# Altium footprint library PROTECT_TVS_ESD_FUSE.PcbLib: 34 footprints (part 1 of 3)
Each footprint in its own frame and in the unit in brackets; x right, y up, seen from the top. Pads: shape width x height; smd on the part's side, far side on the other; paste and mask are expansions set on the pad; w line width, h text height; cw(c..) or ccw(c..) is an arc to the next point about the centre after c.
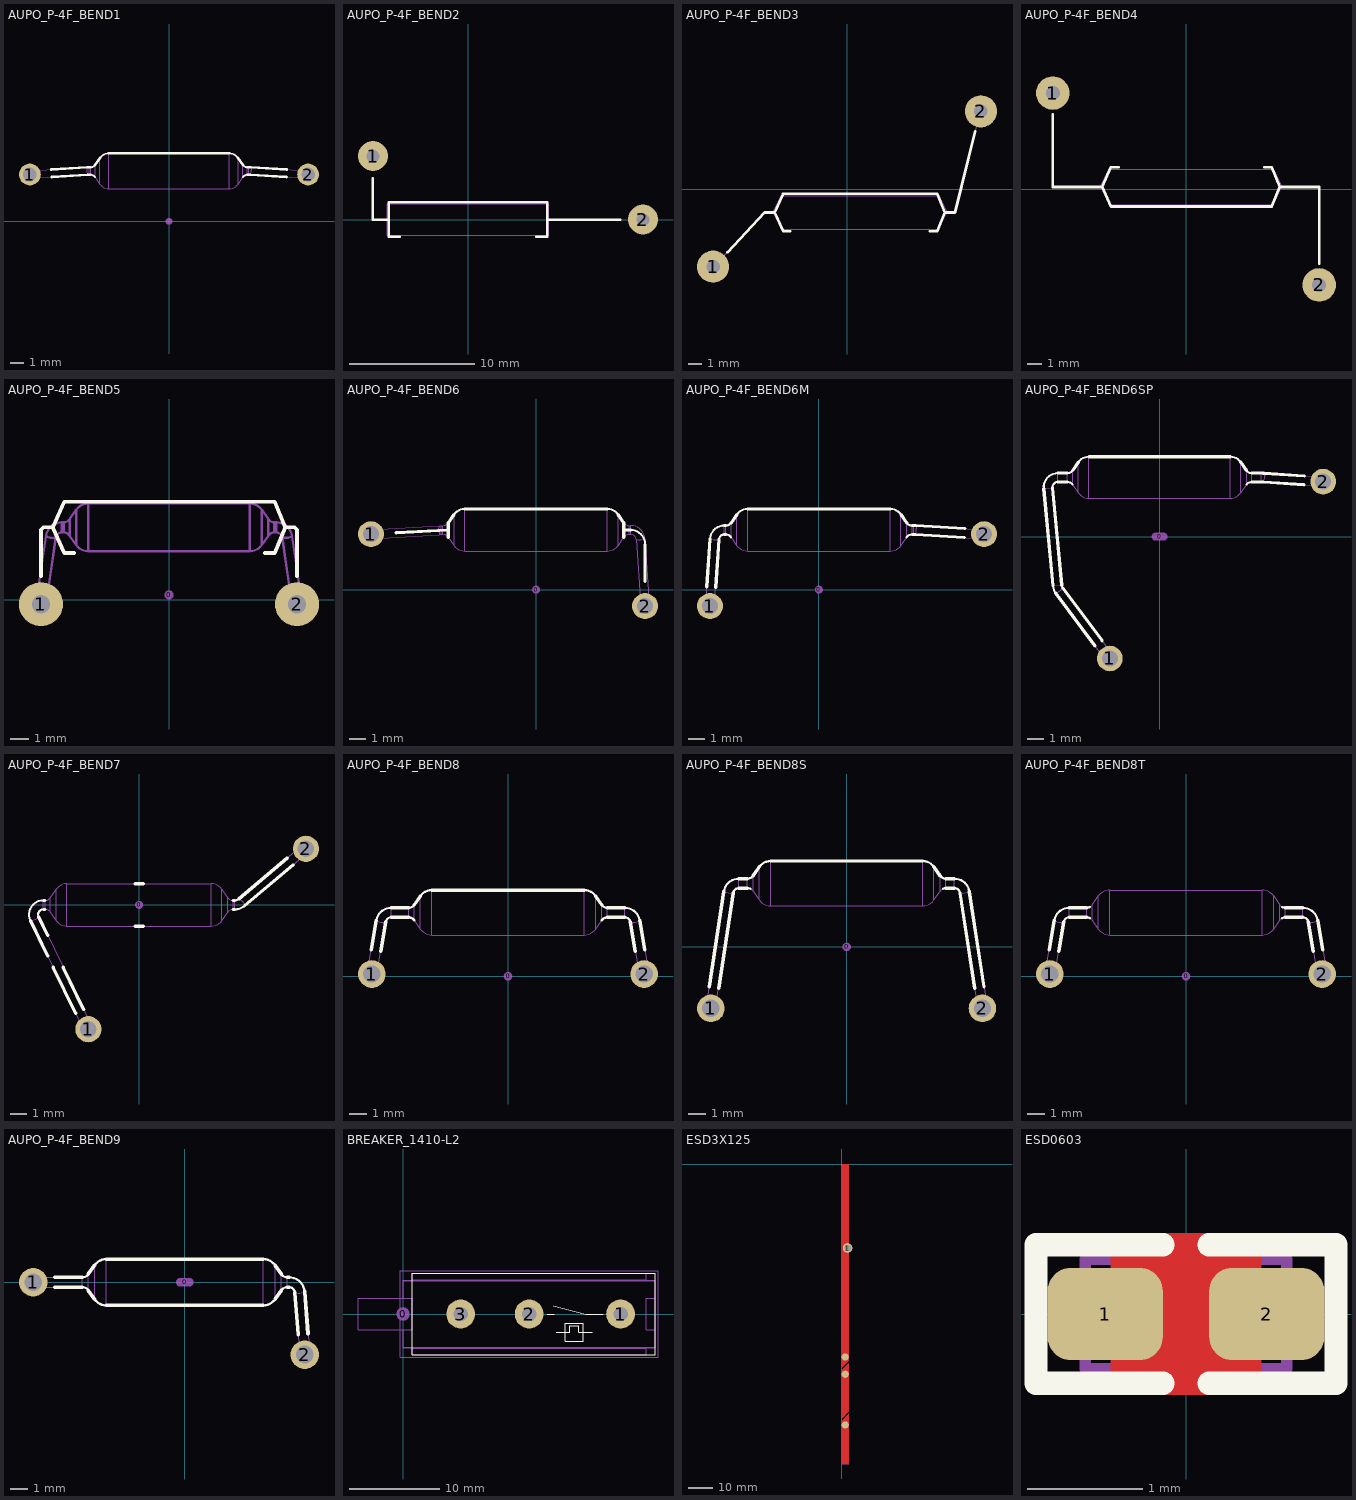
[diagram p0: the footprints below, top view; thin cyan lines are the x and y axes]

## AUPO_P-4F_BEND1 [mm] "Aupo P-4F TCO for positioning on IC legs"
height 2.54
pads (3):
  round 0.5 on Mech15: 0(0,0)
  round 1.6 / inner round 1.6 / far side round 2.4 hole 1: 1(-10.2,3.429) 2(10.2,3.429)
Top Overlay:
  lines w0.127: -5.75,3.408 cw(c-5.75,3.008) -5.422,3.237 ; -5.75,3.958 ccw(c-5.75,4.358) -5.422,4.129 ; -5.063,4.642 cw(c-4.408,4.183) -4.408,4.983 ; 4.408,4.983 cw(c4.408,4.183) 5.063,4.642 ; 5.422,3.237 cw(c5.75,3.008) 5.75,3.408 ; 5.422,4.129 ccw(c5.75,4.358) 5.75,3.958
  lines w0.2: -8.635,3.796 -5.983,3.954 -5.903,3.957 -5.85,3.958 -5.75,3.958 ; -8.602,3.247 -5.95,3.405 -5.91,3.407 -5.85,3.408 -5.75,3.408 ; -5.422,4.129 -5.063,4.642 ; -4.408,4.983 4.408,4.983 ; 5.063,4.642 5.422,4.129 ; 5.75,3.408 5.85,3.408 5.89,3.408 5.95,3.405 8.61,3.246 ; 5.75,3.958 5.85,3.958 5.93,3.957 5.983,3.954 8.643,3.795
Mechanical 13:
  lines w0.05: -9.688,3.733 ccw(c-9.149,3.489) -9.656,3.184 ; 9.656,3.184 ccw(c9.338,3.411) 9.724,3.472 9.725,3.534 9.724,3.593 9.72,3.645 9.714,3.686 9.705,3.715 9.694,3.731 9.688,3.733 ; -5.983,3.954 ccw(c-5.444,3.711) -5.95,3.405 ; -5.983,3.954 -5.903,3.957 -5.85,3.958 ; -5.983,3.954 -10.176,3.704 ccw(c-10.16,3.429) -10.144,3.154 -5.95,3.405 ; -5.95,3.405 -5.91,3.407 -5.85,3.408 ; -5.85,3.408 -5.75,3.408 ; -5.85,3.408 -5.85,3.958 ; -5.85,3.958 -5.75,3.958 ; -5.75,3.408 cw(c-5.75,3.008) -5.422,3.237 ; -5.75,3.408 -5.75,3.958 ; -5.75,3.958 ccw(c-5.75,4.358) -5.422,4.129 ; -5.422,3.237 -5.063,2.724 ; -5.422,3.237 -5.422,4.129 ; -5.422,4.129 -5.063,4.642 ; -5.063,2.724 ccw(c-4.408,3.183) -4.408,2.383 ; -5.063,2.724 -5.063,4.642 ; -5.063,4.642 cw(c-4.408,4.183) -4.408,4.983 ; -4.408,2.383 4.408,2.383 ; -4.408,2.383 -4.408,4.983 ; -4.408,4.983 4.408,4.983 ; 4.408,2.383 ccw(c4.408,3.183) 5.063,2.724 ; 4.408,2.383 4.408,4.983 ; 4.408,4.983 cw(c4.408,4.183) 5.063,4.642 ; 5.063,2.724 5.422,3.237 ; 5.063,2.724 5.063,4.642 ; 5.063,4.642 5.422,4.129 ; 5.422,3.237 cw(c5.75,3.008) 5.75,3.408 ; 5.422,3.237 5.422,4.129 ; 5.422,4.129 ccw(c5.75,4.358) 5.75,3.958 ; 5.75,3.408 5.85,3.408 ; 5.75,3.408 5.75,3.958 ; 5.75,3.958 5.85,3.958 ; 5.85,3.408 5.89,3.408 5.95,3.405 ; 5.85,3.408 5.85,3.958 ; 5.85,3.958 5.93,3.957 5.983,3.954 ; 5.95,3.405 ccw(c5.633,3.632) 6.018,3.693 6.02,3.756 6.019,3.815 6.015,3.866 6.008,3.907 5.999,3.937 5.989,3.952 5.983,3.954 ; 5.95,3.405 10.144,3.154 ccw(c10.16,3.429) 10.176,3.704 5.983,3.954
3D body "TH pad - 20 pin x 90.STEP": height 1.02, standoff 0, extent 9.019,2.287 11.303,4.572
3D body "AUPO P-F Series TCO Bend1.STEP": height 2.65, standoff -2.49, extent -10.433,2.386 10.435,4.981
3D body "TH pad - 20 pin x 90.STEP": height 1.02, standoff 0, extent -11.301,2.287 -9.017,4.571

## AUPO_P-4F_BEND2 [mm] "Aupo P-4F TCO for positioning on IC legs"
height 2.54
pads (2):
  round 2.4 hole 1: 1(-7.6,5.08) 2(14,0)
Top Overlay:
  lines w0.2: -7.62,3.302 -7.62,0 -6.35,0 ; -5.461,-1.397 -6.35,-1.397 -6.35,1.397 6.35,1.397 6.35,-1.397 5.461,-1.397 ; 6.35,0 12.192,0
Mechanical 13:
  lines w0.076: -6.477,-1.27 -6.477,1.265 6.477,1.265 6.477,-1.27 -6.477,-1.27
3D body: height 1.4, standoff -2.41, extent -7.874,4.827 -7.366,5.334
3D body: height 1.65, standoff 1.15, extent -7.873,-0.001 -7.367,5.079
3D body: height 1.65, standoff 1.14, extent -7.607,-0.253 -6.464,0.255
3D body: height 1.65, standoff 1.15, extent 6.35,-0.253 13.97,0.254
3D body: height 2.67, standoff 0.13, extent -6.477,-1.271 6.477,1.266
3D body: height 1.4, standoff -2.41, extent 13.716,-0.253 14.224,0.254
3D body: height 1.65, standoff 1.14, extent 13.714,-0.254 14.221,0.253
3D body: height 1.65, standoff 1.14, extent -7.876,4.826 -7.369,5.333
3D body: height 1.65, standoff 1.14, extent -7.876,-0.255 -7.369,0.253

## AUPO_P-4F_BEND3 [mm] "Aupo P-4F TCO for positioning on IC legs"
height 2.54
pads (2):
  round 2.4 hole 1: 1(-10,-5.8) 2(10,5.8)
Top Overlay:
  lines w0.2: -8.927,-4.723 -6.159,-1.753 -5.397,-1.753 ; -4.229,-3.15 -4.771,-3.15 -5.397,-1.753 ; 6.185,-3.15 6.729,-3.15 7.302,-1.753 ; 9.587,4.318 8.064,-1.753 7.302,-1.753 ; -5.397,-1.753 -4.772,-0.356 6.728,-0.356 7.302,-1.753
Mechanical 13:
  lines w0.076: -9.97,-5.842 -6.15,-1.743 -5.524,-1.743 -4.897,-0.488 6.853,-0.488 7.43,-1.743 8.055,-1.743 9.97,5.842 ; -5.524,-1.755 -4.897,-3.023 6.853,-3.023 7.43,-1.755
3D body "TCOBend3.stp": height 2.67, standoff -2.41, extent -10.207,-6.095 10.24,6.096

## AUPO_P-4F_BEND4 [mm] "Aupo P-4F TCO for positioning on IC legs"
height 2.54
pads (2):
  round 2.4 hole 1: 1(-9.525,6.858) 2(9.525,-6.858)
Top Overlay:
  lines w0.2: -9.525,5.334 -9.525,0.152 -5.994,0.152 ; -5.369,-1.245 6.131,-1.245 6.706,0.152 ; -5.369,1.549 -5.994,0.152 ; -5.368,-1.245 -5.994,0.152 ; -5.368,1.549 -4.826,1.549 ; 5.588,1.549 6.132,1.549 6.706,0.152 ; 9.525,-5.334 9.525,0.152 6.706,0.152
Mechanical 13:
  lines w0.076: -9.525,5.334 -9.525,0.152 -6.121,0.152 ; -6.121,0.15 -5.494,-1.118 6.256,-1.118 6.833,0.15 ; -6.121,0.162 -5.494,1.417 6.256,1.417 6.833,0.162 ; 6.833,0.152 9.525,0.152 9.525,-5.334
3D body "TCOBend4.stp": height 2.67, standoff -2.41, extent -9.778,-7.127 9.778,7.096

## AUPO_P-4F_BEND5 [mm] "Aupo P-4F TCO for positioning on IC legs"
height 2.54
pads (3):
  round 0.5 on Mech15: 0(0,0.254)
  round 2.4 hole 1: 1(-6.985,-0.254) 2(6.985,-0.254)
Top Overlay:
  lines w0.2: -6.985,1.27 -6.985,3.81 -6.858,3.937 -6.35,3.937 ; -5.182,2.54 -5.723,2.54 -6.35,3.937 ; 5.232,2.54 5.776,2.54 6.35,3.937 ; 6.985,1.27 6.985,3.81 6.858,3.937 6.35,3.937 ; -6.35,3.937 -5.725,5.334 5.775,5.334 6.35,3.937
Mechanical 13:
  lines w0.127: -7.186,0.269 ccw(c-6.837,0.751) -6.642,0.189 ; 6.642,0.189 ccw(c6.832,0.837) 7.184,0.261 7.186,0.269 ; -6.716,3.472 ccw(c-6.367,3.955) -6.172,3.392 ; -6.716,3.472 cw(c-5.854,3.34) -5.85,4.212 ; -6.716,3.472 -7.257,-0.214 ccw(c-6.985,-0.254) -6.713,-0.294 -6.172,3.392 ; -6.172,3.392 cw(c-5.854,3.34) -5.85,3.662 ; -5.85,3.662 -5.85,4.212 ; -5.85,3.662 -5.75,3.662 ; -5.85,4.212 -5.75,4.212 ; -5.75,3.662 cw(c-5.75,3.262) -5.422,3.491 ; -5.75,3.662 -5.75,4.212 ; -5.75,4.212 ccw(c-5.75,4.612) -5.422,4.383 ; -5.422,3.491 -5.422,4.383 ; -5.422,3.491 -5.063,2.978 ; -5.422,4.383 -5.063,4.896 ; -5.063,2.978 ccw(c-4.408,3.437) -4.408,2.637 ; -5.063,2.978 -5.063,4.896 ; -5.063,4.896 cw(c-4.408,4.437) -4.408,5.237 ; -4.408,2.637 -4.408,5.237 ; -4.408,2.637 4.408,2.637 ; -4.408,5.237 4.408,5.237 ; 4.408,2.637 ccw(c4.408,3.437) 5.063,2.978 ; 4.408,2.637 4.408,5.237 ; 4.408,5.237 cw(c4.408,4.437) 5.063,4.896 ; 5.063,2.978 5.063,4.896 ; 5.063,2.978 5.422,3.491 ; 5.063,4.896 5.422,4.383 ; 5.422,3.491 cw(c5.75,3.262) 5.75,3.662 ; 5.422,3.491 5.422,4.383 ; 5.422,4.383 ccw(c5.75,4.612) 5.75,4.212 ; 5.75,3.662 5.75,4.212 ; 5.75,3.662 5.85,3.662 ; 5.75,4.212 5.85,4.212 ; 5.85,3.662 cw(c5.854,3.34) 6.172,3.392 ; 5.85,3.662 5.85,4.212 ; 5.85,4.212 cw(c5.854,3.34) 6.716,3.472 ; 6.172,3.392 ccw(c6.361,4.041) 6.714,3.464 6.716,3.472 ; 6.172,3.392 6.713,-0.294 ccw(c6.985,-0.254) 7.26,-0.254 7.257,-0.214 6.716,3.472
3D body "AUPO P-F Series TCO Bend5.STEP": height 2.6, standoff -2.54, extent -7.258,-0.528 7.26,5.235

## AUPO_P-4F_BEND6 [mm] "Aupo P-4F TCO for positioning on IC legs"
height 2.54
pads (3):
  round 0.5 on Mech15: 0(0,0)
  round 1.6 / inner round 1.6 / far side round 2.4 hole 1: 1(-10.2,3.429) 2(6.731,-1.016)
Top Overlay:
  lines w0.127: -5.063,4.642 cw(c-4.408,4.183) -4.408,4.983 ; 4.408,4.983 cw(c4.408,4.183) 5.063,4.642 ; 5.842,3.683 cw(c5.842,2.794) 6.731,2.794
  lines w0.2: -8.64,3.51 -5.422,3.683 ; -5.422,3.237 -5.422,4.129 -5.063,4.642 ; -4.408,4.983 4.408,4.983 ; 5.063,4.642 5.422,4.129 5.422,3.237 ; 5.422,3.683 5.842,3.683 ; 6.731,0.508 6.731,2.794
Mechanical 13:
  lines w0.05: -9.688,3.733 ccw(c-9.143,3.49) -9.656,3.184 ; 6.423,-0.535 ccw(c6.658,0.109) 6.971,-0.501 6.971,-0.498 ; -5.983,3.954 ccw(c-5.438,3.711) -5.95,3.405 ; -5.983,3.954 -5.9,3.957 -5.85,3.958 ; -5.983,3.954 -10.176,3.704 ccw(c-10.16,3.429) -10.144,3.154 -5.95,3.405 ; -5.95,3.405 -5.913,3.407 -5.85,3.408 ; -5.85,3.408 -5.75,3.408 ; -5.85,3.408 -5.85,3.958 ; -5.85,3.958 -5.75,3.958 ; -5.75,3.408 cw(c-5.75,3.008) -5.422,3.237 ; -5.75,3.408 -5.75,3.958 ; -5.75,3.958 ccw(c-5.75,4.358) -5.422,4.129 ; -5.422,3.237 -5.422,4.129 ; -5.422,3.237 -5.063,2.724 ; -5.422,4.129 -5.063,4.642 ; -5.063,2.724 ccw(c-4.408,3.183) -4.408,2.383 ; -5.063,2.724 -5.063,4.642 ; -5.063,4.642 cw(c-4.408,4.183) -4.408,4.983 ; -4.408,2.383 4.408,2.383 ; -4.408,2.383 -4.408,4.983 ; -4.408,4.983 4.408,4.983 ; 4.408,2.383 ccw(c4.408,3.183) 5.063,2.724 ; 4.408,2.383 4.408,4.983 ; 4.408,4.983 cw(c4.408,4.183) 5.063,4.642 ; 5.063,2.724 5.422,3.237 ; 5.063,2.724 5.063,4.642 ; 5.063,4.642 5.422,4.129 ; 5.422,3.237 cw(c5.75,3.008) 5.75,3.408 ; 5.422,3.237 5.422,4.129 ; 5.422,4.129 ccw(c5.75,4.358) 5.75,3.958 ; 5.75,3.408 5.85,3.408 ; 5.75,3.408 5.75,3.958 ; 5.75,3.958 5.85,3.958 ; 5.85,3.408 cw(c5.854,3.087) 6.174,3.112 ; 5.85,3.408 5.85,3.958 ; 5.85,3.958 cw(c5.854,3.086) 6.723,3.15 ; 6.174,3.112 ccw(c6.409,3.758) 6.723,3.147 6.723,3.15 ; 6.174,3.112 6.457,-1.035 ccw(c6.731,-1.016) 7.006,-1.016 7.005,-0.997 6.723,3.15
3D body "TH pad - 20 pin x 90.STEP": height 1.02, standoff 0, extent 5.588,-2.158 7.872,0.126
3D body "AUPO P-F Series TCO Bend6.STEP": height 2.61, standoff -2.53, extent -10.433,-1.29 7.006,4.981
3D body "TH pad - 20 pin x 90.STEP": height 1.02, standoff 0, extent -11.303,2.287 -9.019,4.572

## AUPO_P-4F_BEND6M [mm] "Aupo P-4F TCO for positioning on IC legs"
height 2.54
pads (3):
  round 0.5 on Mech15: 0(0,0)
  round 1.6 / inner round 1.6 / far side round 2.4 hole 1: 1(-6.731,-1.016) 2(10.2,3.429)
Top Overlay:
  lines w0.127: -6.723,3.15 cw(c-5.854,3.087) -5.85,3.958 ; -6.174,3.113 cw(c-5.854,3.086) -5.85,3.408 ; -5.75,3.408 cw(c-5.75,3.008) -5.422,3.237 ; -5.75,3.958 ccw(c-5.75,4.358) -5.422,4.129 ; -5.063,4.642 cw(c-4.408,4.183) -4.408,4.983 ; 4.408,4.983 cw(c4.408,4.183) 5.063,4.642 ; 5.422,3.237 cw(c5.75,3.008) 5.75,3.408 ; 5.422,4.129 ccw(c5.75,4.358) 5.75,3.958
  lines w0.2: -6.925,0.166 -6.723,3.15 ; -6.377,0.129 -6.174,3.113 ; -5.85,3.408 -5.75,3.408 ; -5.85,3.958 -5.75,3.958 ; -5.422,4.129 -5.063,4.642 ; -4.408,4.983 4.408,4.983 ; 5.063,4.642 5.422,4.129 ; 5.75,3.408 5.85,3.408 5.888,3.408 5.952,3.405 8.982,3.224 ; 5.75,3.958 5.85,3.958 5.935,3.956 5.985,3.954 9.015,3.773
Mechanical 13:
  lines w0.05: -6.971,-0.5 ccw(c-6.656,0.069) -6.422,-0.537 ; 9.658,3.184 ccw(c9.332,3.414) 9.727,3.471 9.729,3.532 9.728,3.589 9.724,3.639 9.718,3.681 9.709,3.711 9.699,3.728 9.691,3.733 ; -6.723,3.15 ccw(c-6.409,3.72) -6.174,3.112 ; -6.723,3.15 cw(c-5.854,3.087) -5.85,3.958 ; -6.723,3.15 -7.004,-0.997 ccw(c-6.73,-1.016) -6.456,-1.035 -6.174,3.113 ; -6.174,3.113 cw(c-5.854,3.086) -5.85,3.408 ; -5.85,3.408 -5.85,3.958 ; -5.85,3.408 -5.75,3.408 ; -5.85,3.958 -5.75,3.958 ; -5.75,3.408 cw(c-5.75,3.008) -5.422,3.237 ; -5.75,3.408 -5.75,3.958 ; -5.75,3.958 ccw(c-5.75,4.358) -5.422,4.129 ; -5.422,3.237 -5.422,4.129 ; -5.422,3.237 -5.063,2.724 ; -5.422,4.129 -5.063,4.642 ; -5.063,2.724 ccw(c-4.408,3.183) -4.408,2.383 ; -5.063,2.724 -5.063,4.642 ; -5.063,4.642 cw(c-4.408,4.183) -4.408,4.983 ; -4.408,2.383 -4.408,4.983 ; -4.408,2.383 4.408,2.383 ; -4.408,4.983 4.408,4.983 ; 4.408,2.383 ccw(c4.408,3.183) 5.063,2.724 ; 4.408,2.383 4.408,4.983 ; 4.408,4.983 cw(c4.408,4.183) 5.063,4.642 ; 5.063,2.724 5.063,4.642 ; 5.063,2.724 5.422,3.237 ; 5.063,4.642 5.422,4.129 ; 5.422,3.237 cw(c5.75,3.008) 5.75,3.408 ; 5.422,3.237 5.422,4.129 ; 5.422,4.129 ccw(c5.75,4.358) 5.75,3.958 ; 5.75,3.408 5.75,3.958 ; 5.75,3.408 5.85,3.408 ; 5.75,3.958 5.85,3.958 ; 5.85,3.408 5.85,3.958 ; 5.85,3.408 5.888,3.408 5.952,3.405 ; 5.85,3.958 5.935,3.956 5.985,3.954 ; 5.952,3.405 ccw(c5.626,3.636) 6.021,3.693 6.023,3.753 6.022,3.81 6.018,3.861 6.012,3.902 6.004,3.932 5.993,3.95 5.985,3.954 ; 5.952,3.405 10.144,3.154 ccw(c10.16,3.429) 10.176,3.704 5.985,3.954
3D body "TH pad - 20 pin x 90.STEP": height 1.02, standoff 0, extent -7.872,-2.158 -5.588,0.126
3D body "AUPO P-F Series TCO Bend6M.STEP": height 2.62, standoff -2.54, extent -7.003,-1.29 10.435,4.981
3D body "TH pad - 20 pin x 90.STEP": height 1.02, standoff 0, extent 9.019,2.287 11.303,4.572

## AUPO_P-4F_BEND6SP [mm] "Aupo P-4F TCO for positioning on IC legs"
height 2.54
pads (3):
  oval 1x0.5 on Mech15: 0(0,0)
  round 1.6 / inner round 1.6 / far side round 2.4 hole 1: 1(-3.1,-7.6) 2(10.2,3.429)
Top Overlay:
  lines w0.127: -7.221,3.001 cw(c-6.35,3.083) -6.35,3.958 ; -6.674,3.053 cw(c-6.35,3.083) -6.35,3.408 ; -6.649,-3.08 ccw(c-5.761,-2.997) -6.477,-3.529 ; -6.101,-3.028 ccw(c-5.761,-2.997) -6.036,-3.201 ; -5.75,3.408 cw(c-5.75,3.008) -5.422,3.237 ; -5.75,3.958 ccw(c-5.75,4.358) -5.422,4.129 ; -5.063,4.642 cw(c-4.408,4.183) -4.408,4.983 ; 4.408,4.983 cw(c4.408,4.183) 5.063,4.642 ; 5.422,3.237 cw(c5.75,3.008) 5.75,3.408 ; 5.422,4.129 ccw(c5.75,4.358) 5.75,3.958
  lines w0.2: -7.221,3.001 -6.649,-3.08 ; -6.674,3.053 -6.101,-3.028 ; -6.477,-3.529 -4.026,-6.818 ; -6.35,3.408 -5.75,3.408 ; -6.35,3.958 -5.75,3.958 ; -6.036,-3.201 -3.585,-6.489 ; -5.422,4.129 -5.063,4.642 ; -4.408,4.983 4.408,4.983 ; 5.063,4.642 5.422,4.129 ; 5.75,3.408 6.35,3.408 6.391,3.408 6.468,3.404 9.002,3.232 ; 5.75,3.958 6.35,3.958 6.451,3.956 6.505,3.953 9.039,3.781
Mechanical 13:
  lines w0.05: -3.627,-7.353 ccw(c-3.924,-6.468) -3.216,-7.076 -3.194,-7.049 -3.185,-7.031 -3.186,-7.024 ; 9.673,3.186 ccw(c9.322,3.438) 9.752,3.475 9.754,3.541 9.752,3.601 9.746,3.653 9.738,3.695 9.726,3.722 9.713,3.735 9.71,3.735 ; -7.221,3.001 cw(c-6.35,3.083) -6.35,3.958 ; -7.221,3.001 -6.674,3.053 ; -7.221,3.001 -6.649,-3.08 ; -6.674,3.053 cw(c-6.35,3.083) -6.35,3.408 ; -6.674,3.053 -6.101,-3.028 ; -6.649,-3.08 ccw(c-5.761,-2.997) -6.477,-3.529 ; -6.649,-3.08 -6.101,-3.028 ; -6.477,-3.529 ccw(c-6.773,-2.644) -6.065,-3.252 -6.044,-3.226 -6.035,-3.208 -6.036,-3.201 ; -6.477,-3.529 -3.321,-7.764 ccw(c-3.1,-7.6) -2.879,-7.436 -6.036,-3.201 ; -6.35,3.408 -6.35,3.958 ; -6.35,3.408 -5.75,3.408 ; -6.35,3.958 -5.75,3.958 ; -6.101,-3.028 ccw(c-5.761,-2.997) -6.036,-3.201 ; -5.75,3.408 cw(c-5.75,3.008) -5.422,3.237 ; -5.75,3.408 -5.75,3.958 ; -5.75,3.958 ccw(c-5.75,4.358) -5.422,4.129 ; -5.422,3.237 -5.422,4.129 ; -5.422,3.237 -5.063,2.724 ; -5.422,4.129 -5.063,4.642 ; -5.063,2.724 ccw(c-4.408,3.183) -4.408,2.383 ; -5.063,2.724 -5.063,4.642 ; -5.063,4.642 cw(c-4.408,4.183) -4.408,4.983 ; -4.408,2.383 -4.408,4.983 ; -4.408,2.383 4.408,2.383 ; -4.408,4.983 4.408,4.983 ; 4.408,2.383 ccw(c4.408,3.183) 5.063,2.724 ; 4.408,2.383 4.408,4.983 ; 4.408,4.983 cw(c4.408,4.183) 5.063,4.642 ; 5.063,2.724 5.063,4.642 ; 5.063,2.724 5.422,3.237 ; 5.063,4.642 5.422,4.129 ; 5.422,3.237 cw(c5.75,3.008) 5.75,3.408 ; 5.422,3.237 5.422,4.129 ; 5.422,4.129 ccw(c5.75,4.358) 5.75,3.958 ; 5.75,3.408 5.75,3.958 ; 5.75,3.408 6.35,3.408 ; 5.75,3.958 6.35,3.958 ; 6.35,3.408 6.35,3.958 ; 6.35,3.408 6.391,3.408 6.468,3.404 ; 6.35,3.958 6.451,3.956 6.505,3.953 ; 6.468,3.404 ccw(c6.117,3.656) 6.547,3.693 6.549,3.758 6.547,3.819 6.541,3.871 6.533,3.912 6.521,3.94 6.508,3.952 6.505,3.953 ; 6.468,3.404 10.141,3.155 ccw(c10.16,3.429) 10.179,3.703 6.505,3.953
3D body "TH pad - 20 pin x 90.STEP": height 1.02, standoff 0, extent 9.019,2.287 11.303,4.572
3D body "AUPO P-4F BEND6SP.STEP": height 2.62, standoff -2.54, extent -7.221,-7.874 10.435,4.983
3D body "TH pad - 20 pin x 90.STEP": height 1.02, standoff 0, extent -4.241,-8.742 -1.957,-6.458

## AUPO_P-4F_BEND7 [mm] "Aupo P-4F TCO for positioning on IC legs"
height 2.54
pads (3):
  round 0.5 on Mech15: 0(0,0)
  round 1.6 / inner round 1.6 / far side round 2.4 hole 1: 1(-3.1,-7.6) 2(10.2,3.429)
Top Overlay:
  lines w0.127: -6.639,-0.957 cw(c-5.861,-0.586) -5.85,0.275 ; -6.145,-0.716 cw(c-5.86,-0.587) -5.85,-0.275 ; 5.85,-0.275 ccw(c5.857,0.637) 6.44,-0.064 ; 5.85,0.275 ccw(c5.855,0.642) 6.086,0.357
  lines w0.2: -6.639,-0.957 -5.588,-3.117 ; -6.145,-0.716 -5.588,-1.86 ; -5.85,-0.275 -5.75,-0.275 ; -5.85,0.275 -5.75,0.275 ; -5.251,-3.81 -3.878,-6.63 ; -4.639,-3.81 -3.383,-6.39 ; -0.254,-1.3 0.254,-1.3 ; -0.254,1.3 0.254,1.3 ; 5.75,-0.275 5.85,-0.275 ; 5.75,0.275 5.85,0.275 ; 6.086,0.357 9.064,2.865 ; 6.44,-0.064 9.418,2.445
Mechanical 13:
  lines w0.05: -3.558,-7.288 ccw(c-3.571,-6.598) -3.078,-7.081 -3.064,-7.061 -3.063,-7.047 ; 9.669,3.375 9.683,3.381 9.71,3.379 9.743,3.366 9.783,3.342 9.826,3.308 9.87,3.267 9.912,3.22 9.951,3.17 9.985,3.119 10.011,3.071 10.027,3.029 10.035,2.993 10.032,2.967 10.023,2.954 ; -6.639,-0.957 ccw(c-6.652,-0.267) -6.159,-0.75 -6.145,-0.73 -6.145,-0.716 ; -6.639,-0.957 cw(c-5.861,-0.586) -5.85,0.275 ; -6.639,-0.957 -3.347,-7.72 ccw(c-3.1,-7.6) -2.825,-7.6 -2.832,-7.537 -2.853,-7.48 -6.145,-0.716 ; -6.145,-0.716 cw(c-5.86,-0.587) -5.85,-0.275 ; -5.85,-0.275 -5.85,0.275 ; -5.85,-0.275 -5.75,-0.275 ; -5.85,0.275 -5.75,0.275 ; -5.75,-0.275 cw(c-5.75,-0.675) -5.422,-0.446 ; -5.75,-0.275 -5.75,0.275 ; -5.75,0.275 ccw(c-5.75,0.675) -5.422,0.446 ; -5.422,-0.446 -5.422,0.446 ; -5.422,-0.446 -5.063,-0.959 ; -5.422,0.446 -5.063,0.959 ; -5.063,-0.959 ccw(c-4.408,-0.5) -4.408,-1.3 ; -5.063,-0.959 -5.063,0.959 ; -5.063,0.959 cw(c-4.408,0.5) -4.408,1.3 ; -4.408,-1.3 -4.408,1.3 ; -4.408,-1.3 4.408,-1.3 ; -4.408,1.3 4.408,1.3 ; 4.408,-1.3 ccw(c4.408,-0.5) 5.063,-0.959 ; 4.408,-1.3 4.408,1.3 ; 4.408,1.3 cw(c4.408,0.5) 5.063,0.959 ; 5.063,-0.959 5.063,0.959 ; 5.063,-0.959 5.422,-0.446 ; 5.063,0.959 5.422,0.446 ; 5.422,-0.446 cw(c5.75,-0.675) 5.75,-0.275 ; 5.422,-0.446 5.422,0.446 ; 5.422,0.446 ccw(c5.75,0.675) 5.75,0.275 ; 5.75,-0.275 5.75,0.275 ; 5.75,-0.275 5.85,-0.275 ; 5.75,0.275 5.85,0.275 ; 5.85,-0.275 ccw(c5.857,0.637) 6.44,-0.064 ; 5.85,-0.275 5.85,0.275 ; 5.85,0.275 ccw(c5.855,0.642) 6.086,0.357 ; 6.086,0.357 9.983,3.639 cw(c10.16,3.429) 10.337,3.219 6.44,-0.064 ; 6.086,0.357 6.1,0.363 6.127,0.361 6.16,0.348 6.2,0.324 6.243,0.29 6.287,0.249 6.329,0.202 6.368,0.152 6.402,0.101 6.428,0.053 6.444,0.011 6.452,-0.025 6.449,-0.051 6.44,-0.064
3D body "TH pad - 20 pin x 90.STEP": height 1.02, standoff 0, extent 9.019,2.287 11.303,4.572
3D body "AUPO P-F Series TCO BEND7.STEP": height 3.5, standoff -2.54, extent -6.724,-7.874 10.435,3.704
3D body "TH pad - 20 pin x 90.STEP": height 1.02, standoff 0, extent -4.241,-8.742 -1.957,-6.458

## AUPO_P-4F_BEND8 [mm] "Aupo P-4F TCO for positioning on IC legs"
height 2.54
pads (3):
  round 0.5 on Mech15: 0(0,0)
  round 1.6 / inner round 1.6 / far side round 2.4 hole 1: 1(-7.874,0.127) 2(7.874,0.127)
Top Overlay:
  lines w0.127: -7.613,3.243 cw(c-6.756,3.088) -6.75,3.958 ; -7.071,3.149 cw(c-6.756,3.087) -6.75,3.408 ; -5.75,3.408 cw(c-5.75,3.008) -5.422,3.237 ; -5.75,3.958 ccw(c-5.75,4.358) -5.422,4.129 ; -5.063,4.642 cw(c-4.408,4.183) -4.408,4.983 ; 4.408,4.983 cw(c4.408,4.183) 5.063,4.642 ; 5.422,3.237 cw(c5.75,3.008) 5.75,3.408 ; 5.422,4.129 ccw(c5.75,4.358) 5.75,3.958 ; 6.75,3.408 cw(c6.756,3.088) 7.071,3.149 ; 6.75,3.958 cw(c6.756,3.088) 7.613,3.243
  lines w0.2: -7.91,1.53 -7.613,3.243 ; -7.368,1.436 -7.071,3.149 ; -6.75,3.408 -5.75,3.408 ; -6.75,3.958 -5.75,3.958 ; -5.422,4.129 -5.063,4.642 ; -4.408,4.983 4.408,4.983 ; 5.063,4.642 5.422,4.129 ; 5.75,3.408 6.75,3.408 ; 5.75,3.958 6.75,3.958 ; 7.071,3.149 7.368,1.436 ; 7.613,3.243 7.91,1.53
Mechanical 13:
  lines w0.05: -8.066,0.631 -8.066,0.627 -8.058,0.613 -8.038,0.597 -8.007,0.58 -7.965,0.563 -7.916,0.548 -7.861,0.534 -7.803,0.523 -7.744,0.514 -7.688,0.509 -7.637,0.507 -7.593,0.509 -7.559,0.514 -7.536,0.523 -7.524,0.535 -7.524,0.537 ; -7.61,3.232 ccw(c-7.267,3.671) -7.071,3.149 ; 7.524,0.537 ccw(c7.72,1.058) 8.063,0.62 8.066,0.631 ; 7.61,3.232 cw(c7.267,3.671) 7.071,3.149 ; -7.071,3.149 cw(c-6.756,3.087) -6.75,3.408 ; -7.071,3.149 -7.603,0.08 cw(c-7.874,0.127) -8.145,0.174 -7.613,3.243 cw(c-6.756,3.088) -6.75,3.958 ; -6.75,3.408 -6.75,3.958 ; -6.75,3.408 -5.75,3.408 ; -6.75,3.958 -5.75,3.958 ; -5.75,3.408 cw(c-5.75,3.008) -5.422,3.237 ; -5.75,3.408 -5.75,3.958 ; -5.75,3.958 ccw(c-5.75,4.358) -5.422,4.129 ; -5.422,3.237 -5.422,4.129 ; -5.422,3.237 -5.063,2.724 ; -5.422,4.129 -5.063,4.642 ; -5.063,2.724 ccw(c-4.408,3.183) -4.408,2.383 ; -5.063,2.724 -5.063,4.642 ; -5.063,4.642 cw(c-4.408,4.183) -4.408,4.983 ; -4.408,2.383 -4.408,4.983 ; -4.408,2.383 4.408,2.383 ; -4.408,4.983 4.408,4.983 ; 4.408,2.383 ccw(c4.408,3.183) 5.063,2.724 ; 4.408,2.383 4.408,4.983 ; 4.408,4.983 cw(c4.408,4.183) 5.063,4.642 ; 5.063,2.724 5.063,4.642 ; 5.063,2.724 5.422,3.237 ; 5.063,4.642 5.422,4.129 ; 5.422,3.237 cw(c5.75,3.008) 5.75,3.408 ; 5.422,3.237 5.422,4.129 ; 5.422,4.129 ccw(c5.75,4.358) 5.75,3.958 ; 5.75,3.408 5.75,3.958 ; 5.75,3.408 6.75,3.408 ; 5.75,3.958 6.75,3.958 ; 6.75,3.408 cw(c6.756,3.088) 7.071,3.149 ; 6.75,3.408 6.75,3.958 ; 6.75,3.958 cw(c6.756,3.088) 7.613,3.243 8.145,0.174 8.149,0.127 cw(c7.874,0.127) 7.603,0.08 7.071,3.149
3D body "TH pad - 20 pin x 90.STEP": height 1.02, standoff 0, extent 6.733,-1.015 9.017,1.27
3D body "AUPO P-4F BEND8.STEP": height 2.67, standoff -2.49, extent -8.147,-0.147 8.149,4.983
3D body "TH pad - 20 pin x 90.STEP": height 1.02, standoff 0, extent -9.015,-1.015 -6.731,1.269

## AUPO_P-4F_BEND8S [mm] "Aupo P-4F TCO for positioning beside FETs"
height 3.4
pads (3):
  round 0.5 on Mech15: 0(0,0)
  round 1.6 / inner round 1.6 / far side round 2.4 hole 1: 1(-7.874,-3.556) 2(7.874,-3.556)
Top Overlay:
  lines w0.127: -7.115,3.218 cw(c-6.251,3.084) -6.25,3.958 ; -6.571,3.135 cw(c-6.251,3.084) -6.25,3.408 ; -5.75,3.408 cw(c-5.75,3.008) -5.581,3.371 ; -5.75,3.958 ccw(c-5.75,4.358) -5.422,4.129 ; -5.063,4.642 cw(c-4.408,4.183) -4.408,4.983 ; 4.408,4.983 cw(c4.408,4.183) 5.063,4.642 ; 5.422,4.129 ccw(c5.75,4.358) 5.75,3.958 ; 5.581,3.371 cw(c5.75,3.008) 5.75,3.408 ; 6.25,3.408 cw(c6.251,3.084) 6.571,3.135 ; 6.25,3.958 cw(c6.251,3.084) 7.115,3.218
  lines w0.2: -7.963,-2.322 -7.115,3.218 ; -7.42,-2.405 -6.571,3.135 ; -6.25,3.408 -5.75,3.408 ; -6.25,3.958 -5.75,3.958 ; -5.422,4.129 -5.063,4.642 ; -4.408,4.983 4.408,4.983 ; 5.063,4.642 5.422,4.129 ; 5.75,3.408 6.25,3.408 ; 5.75,3.958 6.25,3.958 ; 6.571,3.135 7.42,-2.405 ; 7.115,3.218 7.963,-2.322
Mechanical 13:
  lines w0.05: -8.065,-2.984 ccw(c-7.648,-2.08) -7.521,-3.067 ; 7.521,-3.067 ccw(c7.642,-1.999) 8.062,-2.989 8.065,-2.984 ; -7.115,3.218 cw(c-6.251,3.084) -6.25,3.958 ; -7.115,3.218 ccw(c-6.698,4.123) -6.571,3.135 ; -7.115,3.218 -8.146,-3.514 ccw(c-7.874,-3.556) -7.602,-3.598 -6.571,3.135 ; -6.571,3.135 cw(c-6.251,3.084) -6.25,3.408 ; -6.25,3.408 -5.75,3.408 ; -6.25,3.408 -6.25,3.958 ; -6.25,3.958 -5.75,3.958 ; -5.75,3.408 cw(c-5.75,3.008) -5.422,3.237 ; -5.75,3.408 -5.75,3.958 ; -5.75,3.958 ccw(c-5.75,4.358) -5.422,4.129 ; -5.422,3.237 -5.063,2.724 ; -5.422,3.237 -5.422,4.129 ; -5.422,4.129 -5.063,4.642 ; -5.063,2.724 ccw(c-4.408,3.183) -4.408,2.383 ; -5.063,2.724 -5.063,4.642 ; -5.063,4.642 cw(c-4.408,4.183) -4.408,4.983 ; -4.408,2.383 4.408,2.383 ; -4.408,2.383 -4.408,4.983 ; -4.408,4.983 4.408,4.983 ; 4.408,2.383 ccw(c4.408,3.183) 5.063,2.724 ; 4.408,2.383 4.408,4.983 ; 4.408,4.983 cw(c4.408,4.183) 5.063,4.642 ; 5.063,2.724 5.422,3.237 ; 5.063,2.724 5.063,4.642 ; 5.063,4.642 5.422,4.129 ; 5.422,3.237 cw(c5.75,3.008) 5.75,3.408 ; 5.422,3.237 5.422,4.129 ; 5.422,4.129 ccw(c5.75,4.358) 5.75,3.958 ; 5.75,3.408 6.25,3.408 ; 5.75,3.408 5.75,3.958 ; 5.75,3.958 6.25,3.958 ; 6.25,3.408 cw(c6.251,3.084) 6.571,3.135 ; 6.25,3.408 6.25,3.958 ; 6.25,3.958 cw(c6.251,3.084) 7.115,3.218 ; 6.571,3.135 ccw(c6.693,4.203) 7.113,3.213 7.115,3.218 ; 6.571,3.135 7.602,-3.598 ccw(c7.874,-3.556) 8.149,-3.556 8.146,-3.514 7.115,3.218
3D body "TH pad - 20 pin x 90.STEP": height 1.02, standoff 0, extent 6.733,-4.698 9.017,-2.413
3D body "AUPO P-4F BEND8S.STEP": height 2.62, standoff -2.54, extent -8.147,-3.83 8.149,4.983
3D body "TH pad - 20 pin x 90.STEP": height 1.02, standoff 0, extent -9.015,-4.698 -6.731,-2.414

## AUPO_P-4F_BEND8T [mm] "Aupo P-4F TCO for positioning on top of FETs"
height 3.4
pads (3):
  round 0.5 on Mech15: 0(0,0)
  round 1.6 / inner round 1.6 / far side round 2.4 hole 1: 1(-7.874,0.127) 2(7.874,0.127)
Top Overlay:
  lines w0.127: -7.613,3.243 cw(c-6.756,3.088) -6.75,3.958 ; -7.071,3.149 cw(c-6.756,3.087) -6.75,3.408 ; -5.75,3.408 cw(c-5.75,3.008) -5.55,3.354 ; -5.75,3.958 ccw(c-5.75,4.358) -5.55,4.012 ; 5.55,3.354 cw(c5.75,3.008) 5.75,3.408 ; 5.55,4.012 ccw(c5.75,4.358) 5.75,3.958 ; 6.75,3.408 cw(c6.756,3.088) 7.071,3.149 ; 6.75,3.958 cw(c6.756,3.088) 7.613,3.243
  lines w0.2: -7.91,1.53 -7.613,3.243 ; -7.368,1.436 -7.071,3.149 ; -6.75,3.408 -5.75,3.408 ; -6.75,3.958 -5.75,3.958 ; 5.75,3.408 6.75,3.408 ; 5.75,3.958 6.75,3.958 ; 7.071,3.149 7.368,1.436 ; 7.613,3.243 7.91,1.53
Mechanical 13:
  lines w0.05: -8.066,0.631 -8.066,0.627 -8.058,0.613 -8.038,0.597 -8.007,0.58 -7.965,0.563 -7.916,0.548 -7.861,0.534 -7.803,0.523 -7.744,0.514 -7.688,0.509 -7.637,0.507 -7.593,0.509 -7.559,0.514 -7.536,0.523 -7.524,0.535 -7.524,0.537 ; -7.61,3.232 ccw(c-7.267,3.671) -7.071,3.149 ; 7.524,0.537 ccw(c7.72,1.058) 8.063,0.62 8.066,0.631 ; 7.61,3.232 cw(c7.267,3.671) 7.071,3.149 ; -7.071,3.149 cw(c-6.756,3.087) -6.75,3.408 ; -7.071,3.149 -7.603,0.08 cw(c-7.874,0.127) -8.145,0.174 -7.613,3.243 cw(c-6.756,3.088) -6.75,3.958 ; -6.75,3.408 -6.75,3.958 ; -6.75,3.408 -5.75,3.408 ; -6.75,3.958 -5.75,3.958 ; -5.75,3.408 cw(c-5.75,3.008) -5.422,3.237 ; -5.75,3.408 -5.75,3.958 ; -5.75,3.958 ccw(c-5.75,4.358) -5.422,4.129 ; -5.422,3.237 -5.422,4.129 ; -5.422,3.237 -5.063,2.724 ; -5.422,4.129 -5.063,4.642 ; -5.063,2.724 ccw(c-4.408,3.183) -4.408,2.383 ; -5.063,2.724 -5.063,4.642 ; -5.063,4.642 cw(c-4.408,4.183) -4.408,4.983 ; -4.408,2.383 -4.408,4.983 ; -4.408,2.383 4.408,2.383 ; -4.408,4.983 4.408,4.983 ; 4.408,2.383 ccw(c4.408,3.183) 5.063,2.724 ; 4.408,2.383 4.408,4.983 ; 4.408,4.983 cw(c4.408,4.183) 5.063,4.642 ; 5.063,2.724 5.063,4.642 ; 5.063,2.724 5.422,3.237 ; 5.063,4.642 5.422,4.129 ; 5.422,3.237 cw(c5.75,3.008) 5.75,3.408 ; 5.422,3.237 5.422,4.129 ; 5.422,4.129 ccw(c5.75,4.358) 5.75,3.958 ; 5.75,3.408 5.75,3.958 ; 5.75,3.408 6.75,3.408 ; 5.75,3.958 6.75,3.958 ; 6.75,3.408 cw(c6.756,3.088) 7.071,3.149 ; 6.75,3.408 6.75,3.958 ; 6.75,3.958 cw(c6.756,3.088) 7.613,3.243 8.145,0.174 8.149,0.127 cw(c7.874,0.127) 7.603,0.08 7.071,3.149
3D body "TH pad - 20 pin x 90.STEP": height 1.02, standoff 0, extent 6.733,-1.015 9.017,1.27
3D body "AUPO P-4F BEND8.STEP": height 3.47, standoff -1.68, extent -8.147,-0.147 8.149,4.983
3D body "TH pad - 20 pin x 90.STEP": height 1.02, standoff 0, extent -9.015,-1.015 -6.731,1.269

## AUPO_P-4F_BEND9 [mm] "Aupo P-4F TCO for positioning on IC legs"
height 2.54
pads (3):
  oval 1x0.5 on Mech15: 0(0,0)
  round 1.6 / inner round 1.6 / far side round 2.4 hole 1: 1(-8.509,0) 2(6.731,-4.064)
Top Overlay:
  lines w0.127: -5.75,-0.275 cw(c-5.75,-0.675) -5.422,-0.446 ; -5.75,0.275 ccw(c-5.75,0.675) -5.422,0.446 ; -5.063,-0.959 ccw(c-4.408,-0.5) -4.408,-1.3 ; -5.063,0.959 cw(c-4.408,0.5) -4.408,1.3 ; 4.408,-1.3 ccw(c4.408,-0.5) 5.063,-0.959 ; 4.408,1.3 cw(c4.408,0.5) 5.063,0.959 ; 5.422,-0.446 cw(c5.75,-0.675) 5.75,-0.275 ; 5.422,0.446 ccw(c5.75,0.675) 5.75,0.275 ; 5.85,-0.275 cw(c5.855,-0.595) 6.174,-0.564 ; 5.85,0.275 cw(c5.855,-0.595) 6.722,-0.52
  lines w0.2: -7.3,-0.275 -5.75,-0.275 ; -7.3,0.275 -5.75,0.275 ; -5.422,-0.446 -5.063,-0.959 ; -5.422,0.446 -5.063,0.959 ; -4.408,-1.3 4.408,-1.3 ; -4.408,1.3 4.408,1.3 ; 5.063,-0.959 5.422,-0.446 ; 5.063,0.959 5.422,0.446 ; 5.75,-0.275 5.85,-0.275 ; 5.75,0.275 5.85,0.275 ; 6.174,-0.564 6.364,-2.944 ; 6.722,-0.525 6.722,-0.52 6.913,-2.9
Mechanical 13:
  lines w0.05: 6.418,-3.606 ccw(c6.652,-3.04) 6.965,-3.567 6.966,-3.562 ; -5.75,-0.275 cw(c-5.75,-0.675) -5.422,-0.446 ; -5.75,-0.275 -8.509,-0.275 cw(c-8.509,0) -8.509,0.275 -5.75,0.275 ; -5.75,-0.275 -5.75,0.275 ; -5.75,0.275 ccw(c-5.75,0.675) -5.422,0.446 ; -5.422,-0.446 -5.063,-0.959 ; -5.422,-0.446 -5.422,0.446 ; -5.422,0.446 -5.063,0.959 ; -5.063,-0.959 ccw(c-4.408,-0.5) -4.408,-1.3 ; -5.063,-0.959 -5.063,0.959 ; -5.063,0.959 cw(c-4.408,0.5) -4.408,1.3 ; -4.408,-1.3 4.408,-1.3 ; -4.408,-1.3 -4.408,1.3 ; -4.408,1.3 4.408,1.3 ; 4.408,-1.3 ccw(c4.408,-0.5) 5.063,-0.959 ; 4.408,-1.3 4.408,1.3 ; 4.408,1.3 cw(c4.408,0.5) 5.063,0.959 ; 5.063,-0.959 5.422,-0.446 ; 5.063,-0.959 5.063,0.959 ; 5.063,0.959 5.422,0.446 ; 5.422,-0.446 cw(c5.75,-0.675) 5.75,-0.275 ; 5.422,-0.446 5.422,0.446 ; 5.422,0.446 ccw(c5.75,0.675) 5.75,0.275 ; 5.75,-0.275 5.85,-0.275 cw(c5.855,-0.595) 6.174,-0.564 ; 5.75,-0.275 5.75,0.275 ; 5.75,0.275 5.85,0.275 cw(c5.855,-0.595) 6.722,-0.52 ; 6.174,-0.564 ccw(c6.408,0.003) 6.722,-0.525 6.722,-0.52 ; 6.174,-0.564 6.456,-4.086 ccw(c6.73,-4.064) 7.005,-4.064 7.004,-4.042 6.722,-0.52
3D body "TH pad - 20 pin x 90.STEP": height 1.02, standoff 0, extent -9.65,-1.142 -7.366,1.143
3D body "TH pad - 20 pin x 90.STEP": height 1.02, standoff 0, extent 5.59,-5.206 7.874,-2.921
3D body "AUPO_P-4F_BEND9.STEP": height 2.62, standoff -2.54, extent -8.782,-4.338 7.005,1.3

## BREAKER_1410-L2 [mm] "E-T-A Thermal Overcurrent Circuit Breaker 1410-L2"
height 10.8
pads (4):
  round 1.5 on Mech15: 0(0,0)
  round 3.2 hole 1.6: 1(24.15,0) 2(14,0) 3(6.4,0)
Top Overlay:
  lines w0.127: 16,0 16.8,0 ; 16.7,0.9 20.3,0 22.2,0 ; 17,-2 18.5,-2 18.5,-1.3 19.5,-1.3 19.5,-2 21,-2 ; 1,-4.5 1,4.5 28,4.5 28,-4.5 1,-4.5 ; 18,-3 18,-1 20,-1 20,-3 18,-3
Mechanical 13:
  lines w0.05: 0,-3.7 28,-3.7 ; 0,-1.8 0.05,-1.75 ; 0,-1.75 0,-3.75 28,-3.75 28,3.75 0,3.75 0,1.75 ; 0,1.8 0.05,1.75 ; 0,3.7 28,3.7 ; 1,-3.8 27,-3.8 ; 1,-3.75 1,-4.5 27,-4.5 27,-3.75 ; 1,3.75 1,4.5 27,4.5 27,3.75 ; 1,3.8 27,3.8 ; 28,-1.8 27.95,-1.75 ; 28,-1.7 27.95,-1.75 ; 28,1.7 27.95,1.75 ; 28,1.8 27.95,1.75 ; 27.95,-1.75 27,-1.75 27,1.75 27.95,1.75 ; -5,-1.75 -5,1.75 1,1.75 1,-1.75 -5,-1.75
15 - Top Courtyards:
  lines w0.127: -0.3,-4.8 28.3,-4.8 28.3,4.8 -0.3,4.8 -0.3,-4.8
3D body "Circuit Breaker 1410-L2.STEP": height 10.8, standoff -3.3, extent -5,-4.5 28,4.5

## ESD3X125 [mm] "ESD 3mm X 125mm"
pads (4):
  round 4 hole 2.7: 1(2.5,-35)
  round 3 smd mask+0.075: 2(1.5,-80.4) 3(1.5,-87.6) 4(1.5,-108.7)
Top Layer:
  region: 0,-125 3,-125 3,-104.1 0,-107.1
  region: 3,-83 0,-86 0,-106.1 3,-103.1
  region: 3,-25 3,-82 0,-85 0,-15 0,0 3,0
Bottom Layer:
  region: 3,-25 3,-82 0,-85 0,-15 0,0 3,0
  region: 3,-83 0,-86 0,-106.1 3,-103.1
  region: 0,-125 3,-125 3,-104.1 0,-107.1
Top Solder:
  region: 3,-25 3,-125 0,-125 0,0 3,0
Bottom Solder:
  region: 3,-25 3,-125 0,-125 0,0 3,0
Mechanical 1:
  lines w0.1: 0,-0.5 0,0 0.5,0

## ESD0603 [mm] "CHIP ESD Suppressor 0603ESDA2-TR2, 1.6x0.8mm, 0603"
height 0.8
pads (2):
  rrect50% 1x0.8 smd paste-2 mask+0.075: 1(-0.7,0) 2(0.7,0)
Top Layer:
  pour cut-out: -0.65,0.5 -0.45,0.7 0.45,0.7 0.65,0.5 0.65,-0.5 0.45,-0.7 -0.45,-0.7 -0.65,-0.5
Top Overlay:
  lines w0.2: -0.2,-0.6 -1.3,-0.6 -1.3,0.6 -0.2,0.6 ; 0.2,-0.6 1.3,-0.6 1.3,0.6 0.2,0.6
Top Paste:
  region: -0.7,0.35 -0.63,0.35 -0.502,0.297 -0.403,0.198 -0.35,0.07 -0.35,0 -0.35,-0.07 -0.403,-0.198 -0.502,-0.297 -0.63,-0.35 -0.7,-0.35 -0.9,-0.35 -0.93,-0.35 -0.985,-0.327 -1.027,-0.285 -1.05,-0.23 -1.05,-0.2 -1.05,0.2 -1.05,0.23 -1.027,0.285 -0.985,0.327 -0.93,0.35 -0.9,0.35
  region: 0.7,0.35 0.63,0.35 0.502,0.297 0.403,0.198 0.35,0.07 0.35,0 0.35,-0.07 0.403,-0.198 0.502,-0.297 0.63,-0.35 0.7,-0.35 0.9,-0.35 0.93,-0.35 0.985,-0.327 1.027,-0.285 1.05,-0.23 1.05,-0.2 1.05,0.2 1.05,0.23 1.027,0.285 0.985,0.327 0.93,0.35 0.9,0.35
Mechanical 13:
  lines w0.1: -0.875,-0.475 0.875,-0.475 0.875,0.475 -0.875,0.475 -0.875,-0.475
3D body "ESD Suppressor 0603 SMD.STEP": height 0.79, standoff -0.01, extent -0.85,-0.45 0.85,0.45